# Altium footprint library PKY_LIB.PcbLib: 59 footprints (part 5 of 5)
Each footprint in its own frame and in the unit in brackets; x right, y up, seen from the top. Pads: shape width x height; smd on the part's side, far side on the other; paste and mask are expansions set on the pad; w line width, h text height; cw(c..) or ccw(c..) is an arc to the next point about the centre after c.
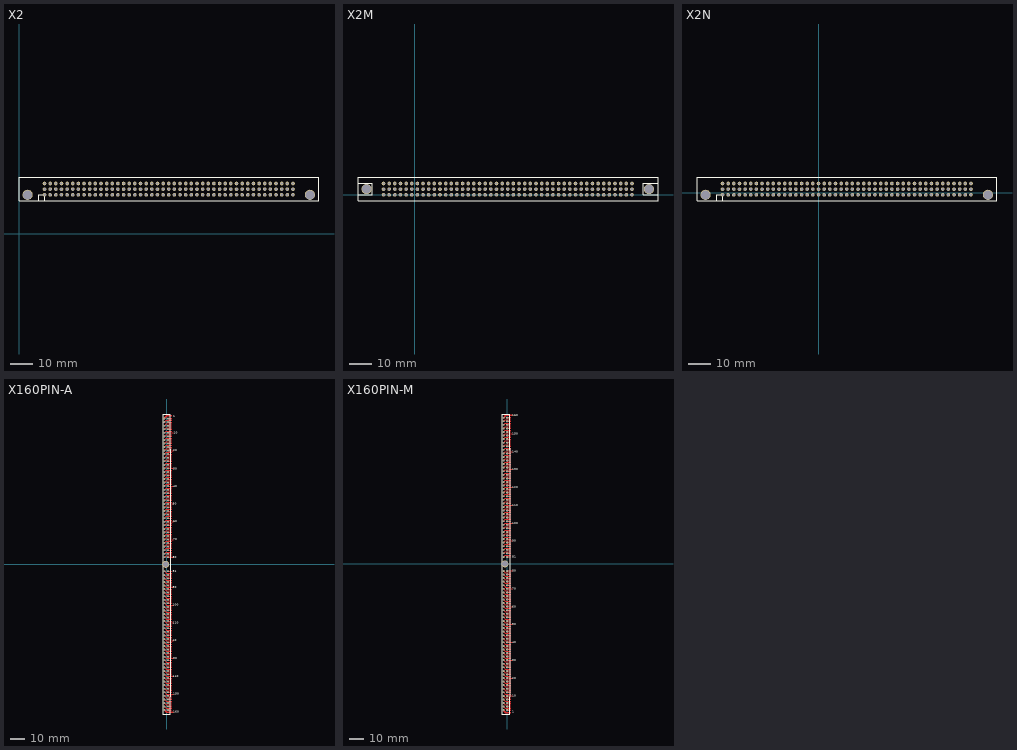
[diagram p4: the footprints below, top view; thin cyan lines are the x and y axes]

## X2 [mm]
pads (137):
  round 1.6 hole 1.1: 1(121.2,17.255) 2(118.7,17.255) 3(116.2,17.255) 4(113.7,17.255) 5(111.2,17.255) 6(108.7,17.255) 7(106.2,17.255) 8(103.7,17.255) 9(101.2,17.255) 10(98.7,17.255) 11(96.2,17.255) 12(93.7,17.255) 13(91.2,17.255) 14(88.7,17.255) 15(86.2,17.255) 16(83.7,17.255) 17(81.2,17.255) 18(78.7,17.255) 19(76.2,17.255) 20(73.7,17.255) 21(71.2,17.255) 22(68.7,17.255) 23(66.2,17.255) 24(63.7,17.255) 25(61.2,17.255) 26(58.7,17.255) 27(56.2,17.255) 28(53.7,17.255) 29(51.2,17.255) 30(48.7,17.255) 31(46.2,17.255) 32(43.7,17.255) 33(41.2,17.255) 34(38.7,17.23) 35(36.2,17.255) 36(33.7,17.255) 37(31.2,17.255) 38(28.7,17.255) 39(26.2,17.255) 40(23.7,17.255) 41(21.2,17.255) 42(18.7,17.255) 43(16.2,17.255) 44(13.7,17.255) 45(11.2,17.255) 46(121.2,19.755) 47(118.7,19.755) 48(116.2,19.755) 49(113.7,19.755) 50(111.2,19.755) 51(108.7,19.755) 52(106.2,19.755) 53(103.7,19.755) 54(101.2,19.755) 55(98.7,19.755) 56(96.2,19.755) 57(93.7,19.755) 58(91.2,19.755) 59(88.7,19.755) 60(86.2,19.755) 61(83.7,19.755) 62(81.2,19.755) 63(78.7,19.755) 64(76.2,19.755) 65(73.7,19.755) 66(71.2,19.755) 67(68.7,19.755) 68(66.2,19.755) 69(63.7,19.755) 70(61.2,19.755) 71(58.7,19.755) 72(56.2,19.755) 73(53.7,19.755) 74(51.2,19.755) 75(48.7,19.755) 76(46.2,19.755) 77(43.7,19.755) 78(41.2,19.755) 79(38.7,19.755) 80(36.2,19.755) 81(33.7,19.755) 82(31.2,19.755) 83(28.7,19.755) 84(26.2,19.755) 85(23.7,19.755) 86(21.2,19.755) 87(18.7,19.755) 88(16.2,19.755) 89(13.7,19.755) 90(11.2,19.755) 91(121.2,22.255) 92(118.7,22.255) 93(116.2,22.255) 94(113.7,22.255) 95(111.2,22.255) 96(108.7,22.255) 97(106.2,22.255) 98(103.7,22.255) 99(101.2,22.255) 100(98.7,22.255) 101(96.2,22.255) 102(93.7,22.255) 103(91.2,22.255) 104(88.7,22.255) 105(86.2,22.255) 106(83.7,22.255) 107(81.2,22.255) 108(78.7,22.255) 109(76.2,22.255) 110(73.7,22.255) 111(71.2,22.255) 112(68.7,22.255) 113(66.2,22.255) 114(63.7,22.255) 115(61.2,22.255) 116(58.7,22.255) 117(56.2,22.255) 118(53.7,22.255) 119(51.2,22.255) 120(48.7,22.255) 121(46.2,22.255) 122(43.7,22.255) 123(41.2,22.255) 124(38.7,22.255) 125(36.2,22.255) 126(33.7,22.255) 127(31.2,22.255) 128(28.7,22.255) 129(26.2,22.255) 130(23.7,22.255) 131(21.2,22.255) 132(18.7,22.255) 133(16.2,22.255) 134(13.7,22.255) 135(11.2,22.255)
  round 4.5 hole 4: ""(3.69,17.255) ""(128.71,17.255)
Top Overlay:
  lines w0.254: 8.635,17.255 11.2,17.255 11.2,14.69 ; 8.66,14.7 8.66,17.265 ; -0.1,14.69 132.72,14.69 132.72,24.95 -0.1,24.95 -0.1,14.69

## X2M [mm]
pads (137):
  round 1.6 hole 1.1: 1(96.189,-0.025) 2(93.689,-0.025) 3(91.189,-0.025) 4(88.689,-0.025) 5(86.189,-0.025) 6(83.689,-0.025) 7(81.189,-0.025) 8(78.689,-0.025) 9(76.189,-0.025) 10(73.689,-0.025) 11(71.189,-0.025) 12(68.689,-0.025) 13(66.189,-0.025) 14(63.689,-0.025) 15(61.189,-0.025) 16(58.689,-0.025) 17(56.189,-0.025) 18(53.689,-0.025) 19(51.189,-0.025) 20(48.689,-0.025) 21(46.189,-0.025) 22(43.689,-0.025) 23(41.189,-0.025) 24(38.689,-0.025) 25(36.189,-0.025) 26(33.689,-0.025) 27(31.189,-0.025) 28(28.689,-0.025) 29(26.189,-0.025) 30(23.689,-0.025) 31(21.189,-0.025) 32(18.689,-0.025) 33(16.189,-0.025) 34(13.69,-0.05) 35(11.19,-0.025) 36(8.69,-0.025) 37(6.19,-0.025) 38(3.69,-0.025) 39(1.19,-0.025) 40(-1.31,-0.025) 41(-3.81,-0.025) 42(-6.31,-0.025) 43(-8.81,-0.025) 44(-11.31,-0.025) 45(-13.81,-0.025) 46(96.189,2.475) 47(93.689,2.475) 48(91.189,2.475) 49(88.689,2.475) 50(86.189,2.475) 51(83.689,2.475) 52(81.189,2.475) 53(78.689,2.475) 54(76.189,2.475) 55(73.689,2.475) 56(71.189,2.475) 57(68.689,2.475) 58(66.189,2.475) 59(63.689,2.475) 60(61.189,2.475) 61(58.689,2.475) 62(56.189,2.475) 63(53.689,2.475) 64(51.189,2.475) 65(48.689,2.475) 66(46.189,2.475) 67(43.689,2.475) 68(41.189,2.475) 69(38.689,2.475) 70(36.189,2.475) 71(33.689,2.475) 72(31.189,2.475) 73(28.689,2.475) 74(26.189,2.475) 75(23.689,2.475) 76(21.189,2.475) 77(18.689,2.475) 78(16.189,2.475) 79(13.69,2.475) 80(11.19,2.475) 81(8.69,2.475) 82(6.19,2.475) 83(3.69,2.475) 84(1.19,2.475) 85(-1.31,2.475) 86(-3.81,2.475) 87(-6.31,2.475) 88(-8.81,2.475) 89(-11.31,2.475) 90(-13.81,2.475) 91(96.189,4.975) 92(93.689,4.975) 93(91.189,4.975) 94(88.689,4.975) 95(86.189,4.975) 96(83.689,4.975) 97(81.189,4.975) 98(78.689,4.975) 99(76.189,4.975) 100(73.689,4.975) 101(71.189,4.975) 102(68.689,4.975) 103(66.189,4.975) 104(63.689,4.975) 105(61.189,4.975) 106(58.689,4.975) 107(56.189,4.975) 108(53.689,4.975) 109(51.189,4.975) 110(48.689,4.975) 111(46.189,4.975) 112(43.689,4.975) 113(41.189,4.975) 114(38.689,4.975) 115(36.189,4.975) 116(33.689,4.975) 117(31.189,4.975) 118(28.689,4.975) 119(26.189,4.975) 120(23.689,4.975) 121(21.189,4.975) 122(18.689,4.975) 123(16.189,4.975) 124(13.69,4.975) 125(11.19,4.975) 126(8.69,4.975) 127(6.19,4.975) 128(3.69,4.975) 129(1.19,4.975) 130(-1.31,4.975) 131(-3.81,4.975) 132(-6.31,4.975) 133(-8.81,4.975) 134(-11.31,4.975) 135(-13.81,4.975)
  round 4.5 hole 4: ""(-21.32,2.475) ""(103.7,2.475)
Top Overlay:
  lines w0.254: -25.114,5.064 -18.71,5.064 -18.71,-0.102 ; -25.111,-0.102 -18.708,-0.102 ; 101.273,5.058 107.677,5.058 ; 101.275,5.058 101.275,-0.108 107.679,-0.108 ; -25.11,-2.59 -25.11,7.67 107.71,7.67 107.71,-2.59 -25.11,-2.59

## X2N [mm]
pads (137):
  round 1.6 hole 1.1: 1(67.309,-0.946) 2(64.809,-0.946) 3(62.309,-0.946) 4(59.809,-0.946) 5(57.309,-0.946) 6(54.809,-0.946) 7(52.309,-0.946) 8(49.809,-0.946) 9(47.309,-0.946) 10(44.809,-0.946) 11(42.31,-0.946) 12(39.81,-0.946) 13(37.31,-0.946) 14(34.81,-0.946) 15(32.31,-0.946) 16(29.81,-0.946) 17(27.31,-0.946) 18(24.81,-0.946) 19(22.31,-0.946) 20(19.81,-0.946) 21(17.31,-0.946) 22(14.81,-0.946) 23(12.31,-0.946) 24(9.81,-0.946) 25(7.31,-0.946) 26(4.81,-0.946) 27(2.31,-0.946) 28(-0.19,-0.946) 29(-2.69,-0.946) 30(-5.19,-0.946) 31(-7.69,-0.946) 32(-10.19,-0.946) 33(-12.69,-0.946) 34(-15.19,-0.971) 35(-17.69,-0.946) 36(-20.19,-0.946) 37(-22.69,-0.946) 38(-25.19,-0.946) 39(-27.69,-0.946) 40(-30.19,-0.946) 41(-32.69,-0.946) 42(-35.19,-0.946) 43(-37.69,-0.946) 44(-40.19,-0.946) 45(-42.69,-0.946) 46(67.309,1.554) 47(64.809,1.554) 48(62.309,1.554) 49(59.809,1.554) 50(57.309,1.554) 51(54.809,1.554) 52(52.309,1.554) 53(49.809,1.554) 54(47.309,1.554) 55(44.809,1.554) 56(42.31,1.554) 57(39.81,1.554) 58(37.31,1.554) 59(34.81,1.554) 60(32.31,1.554) 61(29.81,1.554) 62(27.31,1.554) 63(24.81,1.554) 64(22.31,1.554) 65(19.81,1.554) 66(17.31,1.554) 67(14.81,1.554) 68(12.31,1.554) 69(9.81,1.554) 70(7.31,1.554) 71(4.81,1.554) 72(2.31,1.554) 73(-0.19,1.554) 74(-2.69,1.554) 75(-5.19,1.554) 76(-7.69,1.554) 77(-10.19,1.554) 78(-12.69,1.554) 79(-15.19,1.554) 80(-17.69,1.554) 81(-20.19,1.554) 82(-22.69,1.554) 83(-25.19,1.554) 84(-27.69,1.554) 85(-30.19,1.554) 86(-32.69,1.554) 87(-35.19,1.554) 88(-37.69,1.554) 89(-40.19,1.554) 90(-42.69,1.554) 91(67.309,4.054) 92(64.809,4.054) 93(62.309,4.054) 94(59.809,4.054) 95(57.309,4.054) 96(54.809,4.054) 97(52.309,4.054) 98(49.809,4.054) 99(47.309,4.054) 100(44.809,4.054) 101(42.31,4.054) 102(39.81,4.054) 103(37.31,4.054) 104(34.81,4.054) 105(32.31,4.054) 106(29.81,4.054) 107(27.31,4.054) 108(24.81,4.054) 109(22.31,4.054) 110(19.81,4.054) 111(17.31,4.054) 112(14.81,4.054) 113(12.31,4.054) 114(9.81,4.054) 115(7.31,4.054) 116(4.81,4.054) 117(2.31,4.054) 118(-0.19,4.054) 119(-2.69,4.054) 120(-5.19,4.054) 121(-7.69,4.054) 122(-10.19,4.054) 123(-12.69,4.054) 124(-15.19,4.054) 125(-17.69,4.054) 126(-20.19,4.054) 127(-22.69,4.054) 128(-25.19,4.054) 129(-27.69,4.054) 130(-30.19,4.054) 131(-32.69,4.054) 132(-35.19,4.054) 133(-37.69,4.054) 134(-40.19,4.054) 135(-42.69,4.054)
  round 4.5 hole 4: ""(-50.2,-0.946) ""(74.82,-0.946)
Top Overlay:
  lines w0.254: -45.255,-0.946 -42.69,-0.946 -42.69,-3.511 ; -45.23,-3.501 -45.23,-0.936 ; -53.99,-3.511 -53.99,6.749 78.83,6.749 78.83,-3.511 -53.99,-3.511
3D body "jummmm.stp": height 3.32, standoff -10, extent -53.938,-16.713 79.062,5.213

## X160PIN-A [mm] "Tam Han Jac"
pads (162):
  oct 1.5x1.3 hole 1: 1(-1.519,104.06) 2(1.021,104.06) 3(-1.519,101.52) 4(1.021,101.52) 5(-1.519,98.98) 6(1.021,98.98) 7(-1.519,96.44) 8(1.021,96.44) 9(-1.519,93.9) 10(1.021,93.9) 11(-1.519,91.36) 12(1.021,91.36) 13(-1.519,88.82) 14(1.021,88.82) 15(-1.519,86.28) 16(1.021,86.28) 17(-1.519,83.74) 18(1.021,83.74) 19(-1.519,81.2) 20(1.021,81.2) 21(-1.519,78.66) 22(1.021,78.66) 23(-1.519,76.12) 24(1.021,76.12) 25(-1.519,73.58) 26(1.021,73.58) 27(-1.519,71.04) 28(1.021,71.04) 29(-1.519,68.5) 30(1.021,68.5) 31(-1.519,65.96) 32(1.021,65.96) 33(-1.519,63.42) 34(1.021,63.42) 35(-1.519,60.88) 36(1.021,60.88) 37(-1.519,58.34) 38(1.021,58.34) 39(-1.519,55.8) 40(1.021,55.8) 41(-1.519,53.26) 42(1.021,53.26) 43(-1.519,50.72) 44(1.021,50.72) 45(-1.519,48.18) 46(1.021,48.18) 47(-1.519,45.64) 48(1.021,45.64) 49(-1.519,43.1) 50(1.021,43.1) 51(-1.519,40.56) 52(1.021,40.56) 53(-1.519,38.02) 54(1.021,38.02) 55(-1.519,35.48) 56(1.021,35.48) 57(-1.519,32.94) 58(1.021,32.94) 59(-1.519,30.4) 60(1.021,30.4) 61(-1.519,27.86) 62(1.021,27.86) 63(-1.519,25.32) 64(1.021,25.32) 65(-1.519,22.78) 66(1.021,22.78) 67(-1.519,20.24) 68(1.021,20.24) 69(-1.519,17.7) 70(1.021,17.7) 71(-1.519,15.16) 72(1.021,15.16) 73(-1.519,12.62) 74(1.021,12.62) 75(-1.519,10.08) 76(1.021,10.08) 77(-1.519,7.54) 78(1.021,7.54) 79(-1.519,5) 80(1.021,5) 81(1.021,-5) 82(-1.519,-5) 83(1.021,-7.54) 84(-1.519,-7.54) 85(1.021,-10.08) 86(-1.519,-10.08) 87(1.021,-12.62) 88(-1.519,-12.62) 89(1.021,-15.16) 90(-1.519,-15.16) 91(1.021,-17.7) 92(-1.519,-17.7) 93(1.021,-20.24) 94(-1.519,-20.24) 95(1.021,-22.78) 96(-1.519,-22.78) 97(1.021,-25.32) 98(-1.519,-25.32) 99(1.021,-27.86) 100(-1.519,-27.86) 101(1.021,-30.4) 102(-1.519,-30.4) 103(1.021,-32.94) 104(-1.519,-32.94) 105(1.021,-35.48) 106(-1.519,-35.48) 107(1.021,-38.02) 108(-1.519,-38.02) 109(1.021,-40.56) 110(-1.519,-40.56) 111(1.021,-43.1) 112(-1.519,-43.1) 113(1.021,-45.64) 114(-1.519,-45.64) 115(1.021,-48.18) 116(-1.519,-48.18) 117(1.021,-50.72) 118(-1.519,-50.72) 119(1.021,-53.26) 120(-1.519,-53.26) 121(1.021,-55.8) 122(-1.519,-55.8) 123(1.021,-58.34) 124(-1.519,-58.34) 125(1.021,-60.88) 126(-1.519,-60.88) 127(1.021,-63.42) 128(-1.519,-63.42) 129(1.021,-65.96) 130(-1.519,-65.96) 131(1.021,-68.5) 132(-1.519,-68.5) 133(1.021,-71.04) 134(-1.519,-71.04) 135(1.021,-73.58) 136(-1.519,-73.58) 137(1.021,-76.12) 138(-1.519,-76.12) 139(1.021,-78.66) 140(-1.519,-78.66) 141(1.021,-81.2) 142(-1.519,-81.2) 143(1.021,-83.74) 144(-1.519,-83.74) 145(1.021,-86.28) 146(-1.519,-86.28) 147(1.021,-88.82) 148(-1.519,-88.82) 149(1.021,-91.36) 150(-1.519,-91.36) 151(1.021,-93.9) 152(-1.519,-93.9) 153(1.021,-96.44) 154(-1.519,-96.44) 155(1.021,-98.98) 156(-1.519,-98.98) 157(1.021,-101.52) 158(-1.519,-101.52) 159(1.021,-104.06) 160(-1.519,-104.06) ""(1.021,12.62)
  round 5 hole 4: 148(-0.583,0)
Top Layer:
  lines w0: 1.021,104.067 3.638,104.077 1.021,104.067
  lines w0.3: -1.854,70.974 -1.72,70.84 ; -1.851,101.507 -1.692,101.348 ; -1.851,104.047 -1.692,103.888 ; -1.811,65.853 -1.719,65.761 ; -1.808,96.386 -1.691,96.269 ; -1.793,63.169 -1.519,63.169 -1.422,63.169 ; -1.721,71.225 -1.519,71.225 ; -1.678,66.104 -1.519,66.104 ; -1.678,101.46 -1.519,101.46 ; -1.678,104 -1.519,104 ; -1.672,91.455 -1.548,91.331 ; -1.629,86.334 -1.547,86.252 ; -1.615,96.459 -1.519,96.459 ; -1.61,55.833 -1.519,55.833 -1.509,55.833 ; -1.598,73.574 -1.519,73.574 ; -1.595,104.045 -1.519,104.078 ; -1.587,63.401 -1.519,63.401 ; -1.555,68.649 -1.519,68.649 ; -1.533,99.043 -1.519,99.043 ; -1.533,104.123 -1.519,104.123 ; -1.449,-101.624 -0.292,-102.781 ; -1.449,-99.084 -0.292,-100.241 ; -1.449,-96.544 -0.292,-97.701 ; -1.449,-94.004 -0.292,-95.161 ; -1.449,-91.464 -0.292,-92.621 ; -1.449,-88.924 -0.292,-90.081 ; -1.449,-86.384 -0.292,-87.541 ; -1.449,-83.844 -0.292,-85.001 ; -1.449,-81.304 -0.292,-82.461 ; -1.449,-78.764 -0.292,-79.921 ; -1.449,-76.224 -0.292,-77.381 ; -1.449,-73.684 -0.292,-74.841 ; -1.449,-71.144 -0.292,-72.301 ; -1.449,-68.604 -0.292,-69.761 ; -1.449,-66.064 -0.292,-67.221 ; -1.449,-63.524 -0.292,-64.681 ; -1.449,-60.984 -0.292,-62.141 ; -1.449,-58.444 -0.292,-59.601 ; -1.449,-55.904 -0.292,-57.061 ; -1.449,-53.364 -0.292,-54.521 ; -1.449,-50.824 -0.292,-51.981 ; -1.449,-48.284 -0.292,-49.441 ; -1.449,-45.744 -0.292,-46.901 ; -1.449,-43.204 -0.292,-44.361 ; -1.449,-40.664 -0.292,-41.821 ; -1.449,-38.124 -0.292,-39.281 ; -1.449,-35.584 -0.292,-36.741 ; -1.449,-33.044 -0.292,-34.201 ; -1.449,-30.504 -0.292,-31.661 ; -1.449,-27.964 -0.292,-29.121 ; -1.449,-25.424 -0.292,-26.581 ; -1.449,-22.884 -0.292,-24.041 ; -1.449,-20.344 -0.292,-21.501 ; -1.449,-17.804 -0.292,-18.961 ; -1.449,-15.264 -0.292,-16.421 ; -1.449,-12.724 -0.292,-13.881 ; -1.449,-10.184 -0.292,-11.341 ; -1.449,-7.644 -0.292,-8.801 ; -1.449,-5.104 -0.292,-6.261 ; -1.449,5.059 -0.292,6.216 3.407,6.216 ; -1.449,7.599 -0.292,8.756 3.407,8.756 ; -1.449,10.139 -0.292,11.296 3.407,11.296 ; -1.449,12.679 -0.292,13.836 3.407,13.836 ; -1.449,15.219 -0.292,16.376 3.407,16.376 ; -1.449,17.759 -0.292,18.916 3.407,18.916 ; -1.449,20.299 -0.292,21.456 3.407,21.456 ; -1.449,22.839 -0.292,23.996 3.407,23.996 ; -1.449,25.379 -0.292,26.536 3.407,26.536 ; -1.449,27.919 -0.292,29.076 3.407,29.076 ; -1.449,30.459 -0.292,31.616 3.407,31.616 ; -1.449,32.999 -0.292,34.156 3.407,34.156 ; -1.449,35.539 -0.292,36.696 3.407,36.696 ; -1.449,38.079 -0.292,39.236 3.407,39.236 ; -1.449,40.619 -0.292,41.776 3.407,41.776 ; -1.449,43.159 -0.292,44.316 3.407,44.316 ; -1.449,45.699 -0.292,46.856 3.407,46.856 ; -1.449,48.239 -0.292,49.396 3.407,49.396 ; -1.449,50.779 -0.292,51.936 3.407,51.936 ; -1.449,53.319 -0.292,54.476 3.407,54.476 ; -1.449,55.859 -0.292,57.016 3.407,57.016 ; -1.449,58.399 -0.292,59.556 3.407,59.556 ; -1.449,60.939 -0.292,62.096 3.407,62.096 ; -1.449,63.479 -0.292,64.636 3.407,64.636 ; -1.449,66.019 -0.292,67.176 3.407,67.176 ; -1.449,68.559 -0.292,69.716 3.407,69.716 ; -1.449,71.099 -0.292,72.256 3.407,72.256 ; -1.449,73.639 -0.292,74.796 3.407,74.796 ; -1.449,76.179 -0.292,77.336 3.407,77.336 ; -1.449,78.719 -0.292,79.876 3.407,79.876 ; -1.449,81.259 -0.292,82.416 3.407,82.416 ; -1.449,83.799 -0.292,84.956 3.407,84.956 ; -1.449,86.339 -0.292,87.496 3.407,87.496 ; -1.449,88.879 -0.292,90.036 3.407,90.036 ; -1.449,91.419 -0.292,92.576 3.407,92.576 ; -1.449,93.959 -0.292,95.116 3.407,95.116 ; -1.449,96.499 -0.292,97.656 3.407,97.656 ; -1.449,99.039 -0.292,100.196 3.407,100.196 ; -1.449,101.579 -0.292,102.736 3.407,102.736 ; -1.449,103.788 -1.449,104.13 ; -0.292,-102.844 3.407,-102.844 ; -0.292,-102.804 3.407,-102.804 ; -0.292,-100.264 3.407,-100.264 ; -0.292,-97.724 3.407,-97.724 ; -0.292,-95.184 3.407,-95.184 ; -0.292,-92.644 3.407,-92.644 ; -0.292,-90.104 3.407,-90.104 ; -0.292,-87.564 3.407,-87.564 ; -0.292,-85.024 3.407,-85.024 ; -0.292,-82.484 3.407,-82.484 ; -0.292,-79.944 3.407,-79.944 ; -0.292,-77.404 3.407,-77.404 ; -0.292,-74.864 3.407,-74.864 ; -0.292,-72.324 3.407,-72.324 ; -0.292,-69.784 3.407,-69.784 ; -0.292,-67.244 3.407,-67.244 ; -0.292,-64.704 3.407,-64.704 ; -0.292,-62.164 3.407,-62.164 ; -0.292,-59.624 3.407,-59.624 ; -0.292,-57.084 3.407,-57.084 ; -0.292,-54.544 3.407,-54.544 ; -0.292,-52.004 3.407,-52.004 ; -0.292,-49.464 3.407,-49.464 ; -0.292,-46.924 3.407,-46.924 ; -0.292,-44.384 3.407,-44.384 ; -0.292,-41.844 3.407,-41.844 ; -0.292,-39.304 3.407,-39.304 ; -0.292,-36.764 3.407,-36.764 ; -0.292,-34.224 3.407,-34.224 ; -0.292,-31.684 3.407,-31.684 ; -0.292,-29.144 3.407,-29.144 ; -0.292,-26.604 3.407,-26.604 ; -0.292,-24.064 3.407,-24.064 ; -0.292,-21.524 3.407,-21.524 ; -0.292,-18.984 3.407,-18.984 ; -0.292,-16.444 3.407,-16.444 ; -0.292,-13.904 3.407,-13.904 ; -0.292,-11.364 3.407,-11.364 ; -0.292,-8.824 3.407,-8.824 ; -0.292,-6.284 3.407,-6.284 ; -0.292,105.276 -1.379,104.493 0.086,105.958 ; 0.686,70.974 0.82,70.84 ; 0.689,101.507 0.848,101.348 ; 0.689,104.047 0.848,103.888 ; 0.729,65.853 0.821,65.761 ; 0.732,96.386 0.849,96.269 ; 0.747,63.169 1.021,63.169 1.118,63.169 ; 0.868,91.455 0.992,91.331 ; 0.911,86.334 0.993,86.252 ; 1.021,-104.053 3.431,-104.053 ; 1.021,-101.513 3.431,-101.513 ; 1.021,-98.973 3.431,-98.973 ; 1.021,-96.433 3.431,-96.433 ; 1.021,-93.893 3.431,-93.893 ; 1.021,-91.353 3.431,-91.353 ; 1.021,-88.813 3.431,-88.813 ; 1.021,-86.273 3.431,-86.273 ; 1.021,-83.733 3.431,-83.733 ; 1.021,-81.193 3.431,-81.193 ; 1.021,-78.653 3.431,-78.653 ; 1.021,-76.113 3.431,-76.113 ; 1.021,-73.573 3.431,-73.573 ; 1.021,-71.033 3.431,-71.033 ; 1.021,-68.493 3.431,-68.493 ; 1.021,-65.953 3.431,-65.953 ; 1.021,-63.413 3.431,-63.413 ; 1.021,-60.873 3.431,-60.873 ; 1.021,-58.333 3.431,-58.333 ; 1.021,-55.793 3.431,-55.793 ; 1.021,-53.253 3.431,-53.253 ; 1.021,-50.713 3.431,-50.713 ; 1.021,-48.173 3.431,-48.173 ; 1.021,-45.633 3.431,-45.633 ; 1.021,-43.093 3.431,-43.093 ; 1.021,-40.553 3.431,-40.553 ; 1.021,-38.013 3.431,-38.013 ; 1.021,-35.473 3.431,-35.473 ; 1.021,-32.933 3.431,-32.933 ; 1.021,-30.393 3.431,-30.393 ; 1.021,-27.853 3.431,-27.853 ; 1.021,-25.313 3.431,-25.313 ; 1.021,-22.773 3.431,-22.773 ; 1.021,-20.233 3.431,-20.233 ; 1.021,-17.693 3.431,-17.693 ; 1.021,-15.153 3.431,-15.153 ; 1.021,-12.613 3.431,-12.613 ; 1.021,-10.073 3.431,-10.073 ; 1.021,-7.533 3.431,-7.533 ; 1.021,-4.993 3.431,-4.993 ; 1.021,5.007 3.431,5.007 ; 1.021,7.547 3.431,7.547 ; 1.021,10.087 3.431,10.087 ; 1.021,12.627 3.431,12.627 ; 1.021,15.167 3.431,15.167 ; 1.021,17.707 3.431,17.707 ; 1.021,20.247 3.431,20.247 ; 1.021,22.787 3.431,22.787 ; 1.021,25.327 3.431,25.327 ; 1.021,27.867 3.431,27.867 ; 1.021,30.407 3.431,30.407 ; 1.021,32.947 3.431,32.947 ; 1.021,35.487 3.431,35.487 ; 1.021,38.027 3.431,38.027 ; 1.021,40.567 3.431,40.567 ; 1.021,43.107 3.431,43.107 ; 1.021,45.647 3.431,45.647 ; 1.021,48.187 3.431,48.187 ; 1.021,50.727 3.431,50.727 ; 1.021,53.267 3.431,53.267 ; 1.021,55.807 3.431,55.807 ; 1.021,58.347 3.431,58.347 ; 1.021,60.887 3.431,60.887 ; 1.021,63.427 3.431,63.427 ; 1.021,65.967 3.431,65.967 ; 1.021,68.507 3.431,68.507 ; 1.021,71.047 3.431,71.047 ; 1.021,73.587 3.431,73.587 ; 1.021,76.127 3.431,76.127 ; 1.021,78.667 3.431,78.667 ; 1.021,81.207 3.431,81.207 ; 1.021,83.747 3.431,83.747 ; 1.021,86.287 3.431,86.287 ; 1.021,88.827 3.431,88.827 ; 1.021,91.367 3.431,91.367 ; 1.021,93.907 3.431,93.907 ; 1.021,96.447 3.431,96.447 ; 1.021,98.987 3.431,98.987 ; 1.021,101.527 3.431,101.527 ; 1.091,103.788 1.091,104.13 ; -1.449,-104.164 -0.292,-105.321 -1.449,-104.164
  lines w0.8: 2.602,-102.792 3.602,-102.792 ; 2.602,-100.252 3.602,-100.252 ; 2.602,-97.712 3.602,-97.712 ; 2.602,-95.172 3.602,-95.172 ; 2.602,-92.632 4.602,-92.632 ; 2.602,-90.092 3.602,-90.092 ; 2.602,-87.552 3.602,-87.552 ; 2.602,-85.012 3.602,-85.012 ; 2.602,-82.472 3.602,-82.472 ; 2.602,-79.932 4.602,-79.932 ; 2.602,-77.392 3.602,-77.392 ; 2.602,-74.852 3.602,-74.852 ; 2.602,-72.312 3.602,-72.312 ; 2.602,-69.772 3.602,-69.772 ; 2.602,-67.232 4.602,-67.232 ; 2.602,-64.692 3.602,-64.692 ; 2.602,-62.152 3.602,-62.152 ; 2.602,-59.612 3.602,-59.612 ; 2.602,-57.072 3.602,-57.072 ; 2.602,-54.532 4.602,-54.532 ; 2.602,-51.992 3.602,-51.992 ; 2.602,-49.452 3.602,-49.452 ; 2.602,-46.912 3.602,-46.912 ; 2.602,-44.372 3.602,-44.372 ; 2.602,-41.832 4.602,-41.832 ; 2.602,-39.292 3.602,-39.292 ; 2.602,-36.752 3.602,-36.752 ; 2.602,-34.212 3.602,-34.212 ; 2.602,-31.672 3.602,-31.672 ; 2.602,-29.132 4.602,-29.132 ; 2.602,-26.592 3.602,-26.592 ; 2.602,-24.052 3.602,-24.052 ; 2.602,-21.512 3.602,-21.512 ; 2.602,-18.972 3.602,-18.972 ; 2.602,-16.432 4.602,-16.432 ; 2.602,-13.892 3.602,-13.892 ; 2.602,-11.352 3.602,-11.352 ; 2.602,-8.812 3.602,-8.812 ; 2.602,-6.272 3.602,-6.272 ; 2.602,6.228 3.602,6.228 ; 2.602,8.768 3.602,8.768 ; 2.602,11.308 3.602,11.308 ; 2.602,13.848 3.602,13.848 ; 2.602,16.388 3.602,16.388 ; 2.602,18.928 3.602,18.928 ; 2.602,21.468 3.602,21.468 ; 2.602,24.008 3.602,24.008 ; 2.602,26.548 3.602,26.548 ; 2.602,31.628 3.602,31.628 ; 2.602,34.168 3.602,34.168 ; 2.602,36.708 3.602,36.708 ; 2.602,39.248 3.602,39.248 ; 2.602,41.788 3.602,41.788 ; 2.602,44.328 3.602,44.328 ; 2.602,46.868 3.602,46.868 ; 2.602,49.408 3.602,49.408 ; 2.602,51.948 3.602,51.948 ; 2.602,54.488 3.602,54.488 ; 2.602,57.028 3.602,57.028 ; 2.602,59.568 3.602,59.568 ; 2.602,62.108 3.602,62.108 ; 2.602,64.648 3.602,64.648 ; 2.602,67.188 3.602,67.188 ; 2.602,69.728 3.602,69.728 ; 2.602,72.268 3.602,72.268 ; 2.602,74.808 3.602,74.808 ; 2.602,77.348 3.602,77.348 ; 2.602,79.888 3.602,79.888 ; 2.602,82.428 3.602,82.428 ; 2.602,84.968 3.602,84.968 ; 2.602,87.508 3.602,87.508 ; 2.602,90.048 3.602,90.048 ; 2.602,92.588 3.602,92.588 ; 2.602,95.128 3.602,95.128 ; 2.602,97.668 3.602,97.668 ; 2.602,100.208 3.602,100.208 ; 2.602,102.748 3.602,102.748 ; 2.645,-101.537 3.645,-101.537 ; 2.645,-98.997 3.645,-98.997 ; 2.645,-96.457 3.645,-96.457 ; 2.645,-93.917 3.645,-93.917 ; 2.645,-91.377 3.645,-91.377 ; 2.645,-88.837 3.645,-88.837 ; 2.645,-86.297 3.645,-86.297 ; 2.645,-83.757 3.645,-83.757 ; 2.645,-81.217 3.645,-81.217 ; 2.645,-78.677 3.645,-78.677 ; 2.645,-76.137 3.645,-76.137 ; 2.645,-73.597 3.645,-73.597 ; 2.645,-71.057 3.645,-71.057 ; 2.645,-68.517 3.645,-68.517 ; 2.645,-65.977 3.645,-65.977 ; 2.645,-63.437 3.645,-63.437 ; 2.645,-60.897 3.645,-60.897 ; 2.645,-58.357 3.645,-58.357 ; 2.645,-55.817 3.645,-55.817 ; 2.645,-53.277 3.645,-53.277 ; 2.645,-50.737 3.645,-50.737 ; 2.645,-48.197 3.645,-48.197 ; 2.645,-45.657 3.645,-45.657 ; 2.645,-43.117 3.645,-43.117 ; 2.645,-40.577 3.645,-40.577 ; 2.645,-38.037 3.645,-38.037 ; 2.645,-35.497 3.645,-35.497 ; 2.645,-32.957 3.645,-32.957 ; 2.645,-30.417 3.645,-30.417 ; 2.645,-27.877 3.645,-27.877 ; 2.645,-25.337 3.645,-25.337 ; 2.645,-22.797 3.645,-22.797 ; 2.645,-20.257 3.645,-20.257 ; 2.645,-17.717 3.645,-17.717 ; 2.645,-15.177 3.645,-15.177 ; 2.645,-12.637 3.645,-12.637 ; 2.645,-10.097 3.645,-10.097 ; 2.645,-7.557 3.645,-7.557 ; 2.645,-5.017 3.645,-5.017 ; 2.645,4.983 4.645,4.983 ; 2.645,7.523 3.645,7.523 ; 2.645,10.063 3.645,10.063 ; 2.645,12.603 3.645,12.603 ; 2.645,15.143 3.645,15.143 ; 2.645,17.683 4.645,17.683 ; 2.645,20.223 3.645,20.223 ; 2.645,22.763 3.645,22.763 ; 2.645,25.303 3.645,25.303 ; 2.645,27.843 3.645,27.843 ; 2.645,30.383 4.645,30.383 ; 2.645,32.923 3.645,32.923 ; 2.645,35.463 3.645,35.463 ; 2.645,38.003 3.645,38.003 ; 2.645,40.543 3.645,40.543 ; 2.645,43.083 4.645,43.083 ; 2.645,45.623 3.645,45.623 ; 2.645,48.163 3.645,48.163 ; 2.645,50.703 3.645,50.703 ; 2.645,53.243 3.645,53.243 ; 2.645,55.783 4.645,55.783 ; 2.645,58.323 3.645,58.323 ; 2.645,60.863 3.645,60.863 ; 2.645,63.403 3.645,63.403 ; 2.645,65.943 3.645,65.943 ; 2.645,68.483 4.645,68.483 ; 2.645,71.023 3.645,71.023 ; 2.645,73.563 3.645,73.563 ; 2.645,76.103 3.645,76.103 ; 2.645,78.643 3.645,78.643 ; 2.645,81.183 4.645,81.183 ; 2.645,83.723 3.645,83.723 ; 2.645,86.263 3.645,86.263 ; 2.645,88.803 3.645,88.803 ; 2.645,91.343 3.645,91.343 ; 2.645,93.883 4.645,93.883 ; 2.645,96.423 3.645,96.423 ; 2.645,98.963 3.645,98.963 ; 2.645,101.503 3.645,101.503
  lines w1: -1.379,104.493 0.086,105.958 3.685,105.958 ; -1.367,-104.374 0.005,-105.746 ; 0,-105.739 4.708,-105.732 ; 1.021,-104.053 3.431,-104.053 ; 1.021,104.067 3.638,104.077 ; 2.602,29.088 3.602,29.088
Top Overlay:
  lines w0.3: 2.787,80.727 2.787,107.316 -2.706,107.316 -2.706,-106.877 2.787,-106.877 2.787,-94.405 2.787,82.227
  text "160" at 4.641,-105.952 h1.52
  text "150" at 4.633,-93.154 h1.52
  text "140" at 4.504,-80.485 h1.52
  text "30" at 4.684,-67.841 h1.52
  text "40" at 4.453,-55.07 h1.52
  text "110" at 4.479,-42.58 h1.52
  text "100" at 4.248,-29.654 h1.52
  text "90" at 4.325,-17.139 h1.52
  text "80" at 4.453,4.275 h1.52
  text "70" at 4.658,17.046 h1.52
  text "60" at 4.633,29.869 h1.52
  text "50" at 4.453,42.615 h1.52
  text "40" at 4.594,54.972 h1.52
  text "30" at 4.765,67.65 h1.52
  text "20" at 4.722,80.563 h1.52
  text "10" at 5,93.199 h1.52
  text "1" at 4.709,105.108 h1.52
  text "81" at 4.561,-5.599 h1.52

## X160PIN-M [mm] "Tam M"
pads (163):
  oct 1.5x1.3 hole 1: 1(-2.507,-104.072) 2(0.033,-104.072) 3(-2.507,-101.532) 4(0.033,-101.532) 5(-2.507,-98.992) 6(0.033,-98.992) 7(-2.507,-96.452) 8(0.033,-96.452) 9(-2.507,-93.912) 10(0.033,-93.912) 11(-2.507,-91.372) 12(0.033,-91.372) 13(-2.507,-88.832) 14(0.033,-88.832) 15(-2.507,-86.292) 16(0.033,-86.292) 17(-2.507,-83.752) 18(0.033,-83.752) 19(-2.507,-81.212) 20(0.033,-81.212) 21(-2.507,-78.672) 22(0.033,-78.672) 23(-2.507,-76.132) 24(0.033,-76.132) 25(-2.507,-73.592) 26(0.033,-73.592) 27(-2.507,-71.052) 28(0.033,-71.052) 29(-2.507,-68.512) 30(0.033,-68.512) 31(-2.507,-65.972) 32(0.033,-65.972) 33(-2.507,-63.432) 34(0.033,-63.432) 35(-2.507,-60.892) 36(0.033,-60.892) 37(-2.507,-58.352) 38(0.033,-58.352) 39(-2.507,-55.812) 40(0.033,-55.812) 41(-2.507,-53.272) 42(0.033,-53.272) 43(-2.507,-50.732) 44(0.033,-50.732) 45(-2.507,-48.192) 46(0.033,-48.192) 47(-2.507,-45.652) 48(0.033,-45.652) 49(-2.507,-43.112) 50(0.033,-43.112) 51(-2.507,-40.572) 52(0.033,-40.572) 53(-2.507,-38.032) 54(0.033,-38.032) 55(-2.507,-35.492) 56(0.033,-35.492) 57(-2.507,-32.952) 58(0.033,-32.952) 59(-2.507,-30.412) 60(0.033,-30.412) 61(-2.507,-27.872) 62(0.033,-27.872) 63(-2.507,-25.332) 64(0.033,-25.332) 65(-2.507,-22.792) 66(0.033,-22.792) 67(-2.507,-20.252) 68(0.033,-20.252) 69(-2.507,-17.712) 70(0.033,-17.712) 71(-2.507,-15.172) 72(0.033,-15.172) 73(-2.507,-12.632) 74(0.033,-12.632) 75(-2.507,-10.092) 76(0.033,-10.092) 77(-2.507,-7.552) 78(0.033,-7.552) 79(-2.507,-5.012) 80(0.033,-5.012) 81(0.033,4.988) 82(-2.507,4.988) 83(0.033,7.528) 84(-2.507,7.528) 85(0.033,10.068) 86(-2.507,10.068) 87(0.033,12.608) 88(-2.507,12.608) 89(0.033,15.148) 90(-2.507,15.148) 91(0.033,17.688) 92(-2.507,17.688) 93(0.033,20.228) 94(-2.507,20.228) 95(0.033,22.768) 96(-2.507,22.768) 97(0.033,25.308) 98(-2.507,25.308) 99(0.033,27.848) 100(-2.507,27.848) 101(0.033,30.388) 102(-2.507,30.388) 103(0.033,32.928) 104(-2.507,32.928) 105(0.033,35.468) 106(-2.507,35.468) 107(0.033,38.008) 108(-2.507,38.008) 109(0.033,40.548) 110(-2.507,40.548) 111(0.033,43.088) 112(-2.507,43.088) 113(0.033,45.628) 114(-2.507,45.628) 115(0.033,48.168) 116(-2.507,48.168) 117(0.033,50.708) 118(-2.507,50.708) 119(0.033,53.248) 120(-2.507,53.248) 121(0.033,55.788) 122(-2.507,55.788) 123(0.033,58.328) 124(-2.507,58.328) 125(0.033,60.868) 126(-2.507,60.868) 127(0.033,63.408) 128(-2.507,63.408) 129(0.033,65.948) 130(-2.507,65.948) 131(0.033,68.488) 132(-2.507,68.488) 133(0.033,71.028) 134(-2.507,71.028) 135(0.033,73.568) 136(-2.507,73.568) 137(0.033,76.108) 138(-2.507,76.108) 139(0.033,78.648) 140(-2.507,78.648) 141(0.033,81.188) 142(-2.507,81.188) 143(0.033,83.728) 144(-2.507,83.728) 145(0.033,86.268) 146(-2.507,86.268) 147(0.033,88.808) 148(-2.507,88.808) 149(0.033,91.348) 150(-2.507,91.348) 151(0.033,93.888) 152(-2.507,93.888) 153(0.033,96.428) 154(-2.507,96.428) 155(0.033,98.968) 156(-2.507,98.968) 157(0.033,101.508) 158(-2.507,101.508) 159(0.033,104.048) 160(-2.507,104.048) ""(-2.507,12.608) ""(0.033,12.608)
  round 5 hole 4: 148(-1.571,-0.012)
Top Layer:
  lines w0.3: -2.842,70.962 -2.707,70.828 ; -2.839,101.495 -2.679,101.336 ; -2.839,104.035 -2.679,103.876 ; -2.799,65.841 -2.706,65.749 ; -2.796,96.374 -2.678,96.257 ; -2.781,63.157 -2.507,63.157 -2.41,63.157 ; -2.709,71.213 -2.507,71.213 ; -2.666,66.092 -2.507,66.092 ; -2.666,101.448 -2.507,101.448 ; -2.666,103.988 -2.507,103.988 ; -2.66,91.443 -2.536,91.319 ; -2.617,86.322 -2.535,86.24 ; -2.603,96.447 -2.507,96.447 ; -2.598,55.821 -2.507,55.821 -2.497,55.821 ; -2.586,73.562 -2.507,73.562 ; -2.583,104.033 -2.507,104.065 ; -2.575,63.389 -2.507,63.389 ; -2.543,68.637 -2.507,68.637 ; -2.521,99.031 -2.507,99.031 ; -2.521,104.111 -2.507,104.111 ; -2.437,-101.636 -1.28,-102.793 ; -2.437,-99.096 -1.28,-100.253 ; -2.437,-96.556 -1.28,-97.713 ; -2.437,-94.016 -1.28,-95.173 ; -2.437,-91.476 -1.28,-92.633 ; -2.437,-88.936 -1.28,-90.093 ; -2.437,-86.396 -1.28,-87.553 ; -2.437,-83.856 -1.28,-85.013 ; -2.437,-81.316 -1.28,-82.473 ; -2.437,-78.776 -1.28,-79.933 ; -2.437,-76.236 -1.28,-77.393 ; -2.437,-73.696 -1.28,-74.853 ; -2.437,-71.156 -1.28,-72.313 ; -2.437,-68.616 -1.28,-69.773 ; -2.437,-66.076 -1.28,-67.233 ; -2.437,-63.536 -1.28,-64.693 ; -2.437,-60.996 -1.28,-62.153 ; -2.437,-58.456 -1.28,-59.613 ; -2.437,-55.916 -1.28,-57.073 ; -2.437,-53.376 -1.28,-54.533 ; -2.437,-50.836 -1.28,-51.993 ; -2.437,-48.296 -1.28,-49.453 ; -2.437,-45.756 -1.28,-46.913 ; -2.437,-43.216 -1.28,-44.373 ; -2.437,-40.676 -1.28,-41.833 ; -2.437,-38.136 -1.28,-39.293 ; -2.437,-35.596 -1.28,-36.753 ; -2.437,-33.056 -1.28,-34.213 ; -2.437,-30.516 -1.28,-31.673 ; -2.437,-27.976 -1.28,-29.133 ; -2.437,-25.436 -1.28,-26.593 ; -2.437,-22.896 -1.28,-24.053 ; -2.437,-20.356 -1.28,-21.513 ; -2.437,-17.816 -1.28,-18.973 ; -2.437,-15.276 -1.28,-16.433 ; -2.437,-12.736 -1.28,-13.893 ; -2.437,-10.196 -1.28,-11.353 ; -2.437,-7.656 -1.28,-8.813 ; -2.437,-5.116 -1.28,-6.273 ; -2.437,5.047 -1.28,6.204 2.419,6.204 ; -2.437,7.587 -1.28,8.744 2.419,8.744 ; -2.437,10.127 -1.28,11.284 2.419,11.284 ; -2.437,12.667 -1.28,13.824 2.419,13.824 ; -2.437,15.207 -1.28,16.364 2.419,16.364 ; -2.437,17.747 -1.28,18.904 2.419,18.904 ; -2.437,20.287 -1.28,21.444 2.419,21.444 ; -2.437,22.827 -1.28,23.984 2.419,23.984 ; -2.437,25.367 -1.28,26.524 2.419,26.524 ; -2.437,27.907 -1.28,29.064 2.419,29.064 ; -2.437,30.447 -1.28,31.604 2.419,31.604 ; -2.437,32.987 -1.28,34.144 2.419,34.144 ; -2.437,35.527 -1.28,36.684 2.419,36.684 ; -2.437,38.067 -1.28,39.224 2.419,39.224 ; -2.437,40.607 -1.28,41.764 2.419,41.764 ; -2.437,43.147 -1.28,44.304 2.419,44.304 ; -2.437,45.687 -1.28,46.844 2.419,46.844 ; -2.437,48.227 -1.28,49.384 2.419,49.384 ; -2.437,50.767 -1.28,51.924 2.419,51.924 ; -2.437,53.307 -1.28,54.464 2.419,54.464 ; -2.437,55.847 -1.28,57.004 2.419,57.004 ; -2.437,58.387 -1.28,59.544 2.419,59.544 ; -2.437,60.927 -1.28,62.084 2.419,62.084 ; -2.437,63.467 -1.28,64.624 2.419,64.624 ; -2.437,66.007 -1.28,67.164 2.419,67.164 ; -2.437,68.547 -1.28,69.704 2.419,69.704 ; -2.437,71.087 -1.28,72.244 2.419,72.244 ; -2.437,73.627 -1.28,74.784 2.419,74.784 ; -2.437,76.167 -1.28,77.324 2.419,77.324 ; -2.437,78.707 -1.28,79.864 2.419,79.864 ; -2.437,81.247 -1.28,82.404 2.419,82.404 ; -2.437,83.787 -1.28,84.944 2.419,84.944 ; -2.437,86.327 -1.28,87.484 2.419,87.484 ; -2.437,88.867 -1.28,90.024 2.419,90.024 ; -2.437,91.407 -1.28,92.564 2.419,92.564 ; -2.437,93.947 -1.28,95.104 2.419,95.104 ; -2.437,96.487 -1.28,97.644 2.419,97.644 ; -2.437,99.027 -1.28,100.184 2.419,100.184 ; -2.437,101.567 -1.28,102.724 2.419,102.724 ; -2.437,103.776 -2.437,104.118 ; -2.31,-104.643 -0.697,-105.916 ; -1.28,-102.856 2.419,-102.856 ; -1.28,-102.816 2.419,-102.816 ; -1.28,-100.276 2.419,-100.276 ; -1.28,-97.736 2.419,-97.736 ; -1.28,-95.196 2.419,-95.196 ; -1.28,-92.656 2.419,-92.656 ; -1.28,-90.116 2.419,-90.116 ; -1.28,-87.576 2.419,-87.576 ; -1.28,-85.036 2.419,-85.036 ; -1.28,-82.496 2.419,-82.496 ; -1.28,-79.956 2.419,-79.956 ; -1.28,-77.416 2.419,-77.416 ; -1.28,-74.876 2.419,-74.876 ; -1.28,-72.336 2.419,-72.336 ; -1.28,-69.796 2.419,-69.796 ; -1.28,-67.256 2.419,-67.256 ; -1.28,-64.716 2.419,-64.716 ; -1.28,-62.176 2.419,-62.176 ; -1.28,-59.636 2.419,-59.636 ; -1.28,-57.096 2.419,-57.096 ; -1.28,-54.556 2.419,-54.556 ; -1.28,-52.016 2.419,-52.016 ; -1.28,-49.476 2.419,-49.476 ; -1.28,-46.936 2.419,-46.936 ; -1.28,-44.396 2.419,-44.396 ; -1.28,-41.856 2.419,-41.856 ; -1.28,-39.316 2.419,-39.316 ; -1.28,-36.776 2.419,-36.776 ; -1.28,-34.236 2.419,-34.236 ; -1.28,-31.696 2.419,-31.696 ; -1.28,-29.156 2.419,-29.156 ; -1.28,-26.616 2.419,-26.616 ; -1.28,-24.076 2.419,-24.076 ; -1.28,-21.536 2.419,-21.536 ; -1.28,-18.996 2.419,-18.996 ; -1.28,-16.456 2.419,-16.456 ; -1.28,-13.916 2.419,-13.916 ; -1.28,-11.376 2.419,-11.376 ; -1.28,-8.836 2.419,-8.836 ; -1.28,-6.296 2.419,-6.296 ; -0.963,105.729 -2.437,104.107 -0.829,105.714 ; -0.302,70.962 -0.167,70.828 ; -0.299,101.495 -0.139,101.336 ; -0.299,104.035 -0.139,103.876 ; -0.259,65.841 -0.166,65.749 ; -0.256,96.374 -0.138,96.257 ; -0.241,63.157 0.033,63.157 0.13,63.157 ; -0.12,91.443 0.004,91.319 ; -0.077,86.322 0.005,86.24 ; 0.033,-104.066 2.443,-104.066 ; 0.033,-101.526 2.443,-101.526 ; 0.033,-98.986 2.443,-98.986 ; 0.033,-96.446 2.443,-96.446 ; 0.033,-93.906 2.443,-93.906 ; 0.033,-91.366 2.443,-91.366 ; 0.033,-88.826 2.443,-88.826 ; 0.033,-86.286 2.443,-86.286 ; 0.033,-83.746 2.443,-83.746 ; 0.033,-81.206 2.443,-81.206 ; 0.033,-78.666 2.443,-78.666 ; 0.033,-76.126 2.443,-76.126 ; 0.033,-73.586 2.443,-73.586 ; 0.033,-71.046 2.443,-71.046 ; 0.033,-68.506 2.443,-68.506 ; 0.033,-65.966 2.443,-65.966 ; 0.033,-63.426 2.443,-63.426 ; 0.033,-60.886 2.443,-60.886 ; 0.033,-58.346 2.443,-58.346 ; 0.033,-55.806 2.443,-55.806 ; 0.033,-53.266 2.443,-53.266 ; 0.033,-50.726 2.443,-50.726 ; 0.033,-48.186 2.443,-48.186 ; 0.033,-45.646 2.443,-45.646 ; 0.033,-43.106 2.443,-43.106 ; 0.033,-40.566 2.443,-40.566 ; 0.033,-38.026 2.443,-38.026 ; 0.033,-35.486 2.443,-35.486 ; 0.033,-32.946 2.443,-32.946 ; 0.033,-30.406 2.443,-30.406 ; 0.033,-27.866 2.443,-27.866 ; 0.033,-25.326 2.443,-25.326 ; 0.033,-22.786 2.443,-22.786 ; 0.033,-20.246 2.443,-20.246 ; 0.033,-17.706 2.443,-17.706 ; 0.033,-15.166 2.443,-15.166 ; 0.033,-12.626 2.443,-12.626 ; 0.033,-10.086 2.443,-10.086 ; 0.033,-7.546 2.443,-7.546 ; 0.033,-5.006 2.443,-5.006 ; 0.033,4.994 2.443,4.994 ; 0.033,7.534 2.443,7.534 ; 0.033,10.074 2.443,10.074 ; 0.033,12.614 2.443,12.614 ; 0.033,15.154 2.443,15.154 ; 0.033,17.694 2.443,17.694 ; 0.033,20.234 2.443,20.234 ; 0.033,22.774 2.443,22.774 ; 0.033,25.314 2.443,25.314 ; 0.033,27.854 2.443,27.854 ; 0.033,30.394 2.443,30.394 ; 0.033,32.934 2.443,32.934 ; 0.033,35.474 2.443,35.474 ; 0.033,38.014 2.443,38.014 ; 0.033,40.554 2.443,40.554 ; 0.033,43.094 2.443,43.094 ; 0.033,45.634 2.443,45.634 ; 0.033,48.174 2.443,48.174 ; 0.033,50.714 2.443,50.714 ; 0.033,53.254 2.443,53.254 ; 0.033,55.794 2.443,55.794 ; 0.033,58.334 2.443,58.334 ; 0.033,60.874 2.443,60.874 ; 0.033,63.414 2.443,63.414 ; 0.033,65.954 2.443,65.954 ; 0.033,68.494 2.443,68.494 ; 0.033,71.034 2.443,71.034 ; 0.033,73.574 2.443,73.574 ; 0.033,76.114 2.443,76.114 ; 0.033,78.654 2.443,78.654 ; 0.033,81.194 2.443,81.194 ; 0.033,83.734 2.443,83.734 ; 0.033,86.274 2.443,86.274 ; 0.033,88.814 2.443,88.814 ; 0.033,91.354 2.443,91.354 ; 0.033,93.894 2.443,93.894 ; 0.033,96.434 2.443,96.434 ; 0.033,98.974 2.443,98.974 ; 0.033,101.514 2.443,101.514 ; 0.103,103.776 0.103,104.118 ; 0.033,104.054 2.443,104.054 0.033,104.054
  lines w0.8: 1.614,-102.804 2.614,-102.804 ; 1.614,-100.264 2.614,-100.264 ; 1.614,-97.724 2.614,-97.724 ; 1.614,-95.184 2.614,-95.184 ; 1.614,-92.644 2.614,-92.644 ; 1.614,-90.104 2.614,-90.104 ; 1.614,-87.564 2.614,-87.564 ; 1.614,-85.024 2.614,-85.024 ; 1.614,-82.484 2.614,-82.484 ; 1.614,-79.944 2.614,-79.944 ; 1.614,-77.404 2.614,-77.404 ; 1.614,-74.864 2.614,-74.864 ; 1.614,-72.324 2.614,-72.324 ; 1.614,-69.784 2.614,-69.784 ; 1.614,-67.244 2.614,-67.244 ; 1.614,-64.704 2.614,-64.704 ; 1.614,-62.164 2.614,-62.164 ; 1.614,-59.624 2.614,-59.624 ; 1.614,-57.084 2.614,-57.084 ; 1.614,-54.544 2.614,-54.544 ; 1.614,-52.004 2.614,-52.004 ; 1.614,-49.464 2.614,-49.464 ; 1.614,-46.924 2.614,-46.924 ; 1.614,-44.384 2.614,-44.384 ; 1.614,-41.844 2.614,-41.844 ; 1.614,-39.304 2.614,-39.304 ; 1.614,-36.764 2.614,-36.764 ; 1.614,-34.224 2.614,-34.224 ; 1.614,-31.684 2.614,-31.684 ; 1.614,-29.144 2.614,-29.144 ; 1.614,-26.604 2.614,-26.604 ; 1.614,-24.064 2.614,-24.064 ; 1.614,-21.524 2.614,-21.524 ; 1.614,-18.984 2.614,-18.984 ; 1.614,-16.444 2.614,-16.444 ; 1.614,-13.904 2.614,-13.904 ; 1.614,-11.364 2.614,-11.364 ; 1.614,-8.824 2.614,-8.824 ; 1.614,-6.284 2.614,-6.284 ; 1.614,6.216 2.614,6.216 ; 1.614,8.756 2.614,8.756 ; 1.614,11.296 2.614,11.296 ; 1.614,13.836 2.614,13.836 ; 1.614,16.376 3.614,16.376 ; 1.614,18.916 2.614,18.916 ; 1.614,21.456 2.614,21.456 ; 1.614,23.996 2.614,23.996 ; 1.614,26.536 2.614,26.536 ; 1.614,29.076 3.614,29.076 ; 1.614,31.616 2.614,31.616 ; 1.614,34.156 2.614,34.156 ; 1.614,36.696 2.614,36.696 ; 1.614,39.236 2.614,39.236 ; 1.614,41.776 3.614,41.776 ; 1.614,44.316 2.614,44.316 ; 1.614,46.856 2.614,46.856 ; 1.614,49.396 2.614,49.396 ; 1.614,51.936 2.614,51.936 ; 1.614,54.476 3.614,54.476 ; 1.614,57.016 2.614,57.016 ; 1.614,59.556 2.614,59.556 ; 1.614,62.096 2.614,62.096 ; 1.614,64.636 2.614,64.636 ; 1.614,67.176 3.614,67.176 ; 1.614,69.716 2.614,69.716 ; 1.614,72.256 2.614,72.256 ; 1.614,74.796 2.614,74.796 ; 1.614,77.336 2.614,77.336 ; 1.614,79.876 3.614,79.876 ; 1.614,82.416 2.614,82.416 ; 1.614,84.956 2.614,84.956 ; 1.614,87.496 2.614,87.496 ; 1.614,90.036 2.614,90.036 ; 1.614,92.576 3.614,92.576 ; 1.614,95.116 2.614,95.116 ; 1.614,97.656 2.614,97.656 ; 1.614,100.196 2.614,100.196 ; 1.614,102.736 2.614,102.736 ; 1.657,-104.09 2.657,-104.09 ; 1.657,-101.55 2.657,-101.55 ; 1.657,-99.01 2.657,-99.01 ; 1.657,-96.47 2.657,-96.47 ; 1.657,-93.93 3.657,-93.93 ; 1.657,-91.39 2.657,-91.39 ; 1.657,-88.85 2.657,-88.85 ; 1.657,-86.31 2.657,-86.31 ; 1.657,-83.77 2.657,-83.77 ; 1.657,-81.23 3.657,-81.23 ; 1.657,-78.69 2.657,-78.69 ; 1.657,-76.15 2.657,-76.15 ; 1.657,-73.61 2.657,-73.61 ; 1.657,-71.07 2.657,-71.07 ; 1.657,-68.53 3.657,-68.53 ; 1.657,-65.99 2.657,-65.99 ; 1.657,-63.45 2.657,-63.45 ; 1.657,-60.91 2.657,-60.91 ; 1.657,-58.37 2.657,-58.37 ; 1.657,-55.83 3.657,-55.83 ; 1.657,-53.29 2.657,-53.29 ; 1.657,-50.75 2.657,-50.75 ; 1.657,-48.21 2.657,-48.21 ; 1.657,-45.67 2.657,-45.67 ; 1.657,-43.13 3.657,-43.13 ; 1.657,-40.59 2.657,-40.59 ; 1.657,-38.05 2.657,-38.05 ; 1.657,-35.51 2.657,-35.51 ; 1.657,-32.97 2.657,-32.97 ; 1.657,-30.43 3.657,-30.43 ; 1.657,-27.89 2.657,-27.89 ; 1.657,-25.35 2.657,-25.35 ; 1.657,-22.81 2.657,-22.81 ; 1.657,-20.27 2.657,-20.27 ; 1.657,-17.73 3.657,-17.73 ; 1.657,-15.19 2.657,-15.19 ; 1.657,-12.65 2.657,-12.65 ; 1.657,-10.11 2.657,-10.11 ; 1.657,-7.57 2.657,-7.57 ; 1.657,-5.03 3.657,-5.03 ; 1.657,4.97 2.657,4.97 ; 1.657,7.51 2.657,7.51 ; 1.657,10.05 2.657,10.05 ; 1.657,12.59 2.657,12.59 ; 1.657,15.13 2.657,15.13 ; 1.657,17.67 2.657,17.67 ; 1.657,20.21 2.657,20.21 ; 1.657,22.75 2.657,22.75 ; 1.657,25.29 2.657,25.29 ; 1.657,27.83 2.657,27.83 ; 1.657,30.37 2.657,30.37 ; 1.657,32.91 2.657,32.91 ; 1.657,35.45 2.657,35.45 ; 1.657,37.99 2.657,37.99 ; 1.657,40.53 2.657,40.53 ; 1.657,43.07 2.657,43.07 ; 1.657,45.61 2.657,45.61 ; 1.657,48.15 2.657,48.15 ; 1.657,50.69 2.657,50.69 ; 1.657,53.23 2.657,53.23 ; 1.657,55.77 2.657,55.77 ; 1.657,58.31 2.657,58.31 ; 1.657,60.85 2.657,60.85 ; 1.657,63.39 2.657,63.39 ; 1.657,65.93 2.657,65.93 ; 1.657,68.47 2.657,68.47 ; 1.657,71.01 2.657,71.01 ; 1.657,73.55 2.657,73.55 ; 1.657,76.09 2.657,76.09 ; 1.657,78.63 2.657,78.63 ; 1.657,81.17 2.657,81.17 ; 1.657,83.71 2.657,83.71 ; 1.657,86.25 2.657,86.25 ; 1.657,88.79 2.657,88.79 ; 1.657,91.33 2.657,91.33 ; 1.657,93.87 2.657,93.87 ; 1.657,96.41 2.657,96.41 ; 1.657,98.95 2.657,98.95 ; 1.657,101.49 2.657,101.49 ; 1.657,104.03 2.657,104.03 1.657,104.03
  lines w1: -2.437,104.107 -0.963,105.729 ; -2.31,-104.643 -1.036,-105.916 1.859,-105.916 ; -0.829,105.714 1.507,105.714 3.66,105.714 ; 0.033,-104.066 2.443,-104.066 ; 0.033,104.054 2.443,104.054 ; 1.643,-105.895 2.643,-105.895 ; 1.657,-104.09 2.657,-104.09 ; 1.657,104.03 2.657,104.03
Top Overlay:
  lines w0.3: 1.799,80.715 1.799,106.668 -3.693,106.668 -3.693,-106.831 1.799,-106.831 1.799,-94.418 1.799,82.215
  text "81" at 3.728,4.374 h1.52
  text "160" at 3.639,105.032 h1.52
  text "150" at 3.653,91.813 h1.52
  text "140" at 3.653,79.157 h1.52
  text "130" at 3.653,66.46 h1.52
  text "120" at 3.653,53.762 h1.52
  text "110" at 3.653,41.147 h1.52
  text "100" at 3.653,28.325 h1.52
  text "90" at 3.653,15.669 h1.52
  text "80" at 3.653,-5.73 h1.52
  text "70" at 3.653,-18.344 h1.52
  text "60" at 3.653,-31.083 h1.52
  text "50" at 3.653,-43.739 h1.52
  text "40" at 3.653,-56.479 h1.52
  text "30" at 3.653,-69.176 h1.52
  text "20" at 3.653,-81.973 h1.52
  text "10" at 3.653,-94.471 h1.52
  text "1" at 3.653,-105.964 h1.52